# EAGLE library part MW_LDD-700H (library LEDCurrentDrivers)
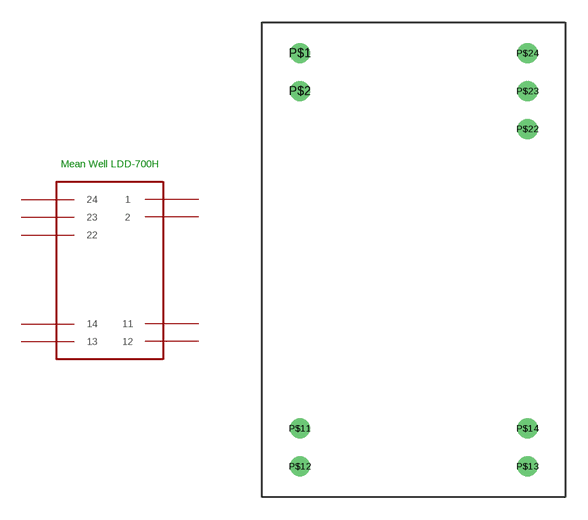
[diagram p2: symbol with the pads of MW_LDD-700H; footprint MW_LDD-700H]

Designator prefix -

## MW_LDD-700H  [MW_LDD-700H]
P$1  P1
P$2  P2
P$11  P11
P$12  P12
P$13  P13
P$14  P14
P$22  P22
P$23  P23
P$24  P24

## Footprint MW_LDD-700H (pad centres in mm)
drill 0.838: P$1 -7.62,13.84; P$2 -7.62,11.3; P$11 -7.62,-11.3; P$12 -7.62,-13.84; P$13 7.62,-13.84; P$14 7.62,-11.3; P$22 7.62,8.76; P$23 7.62,11.3; P$24 7.62,13.84